# Altium footprint library 分立器件.PcbLib: 102 footprints (part 4 of 7)
Each footprint in its own frame and in the unit in brackets; x right, y up, seen from the top. Pads: shape width x height; smd on the part's side, far side on the other; paste and mask are expansions set on the pad; w line width, h text height; cw(c..) or ccw(c..) is an arc to the next point about the centre after c.
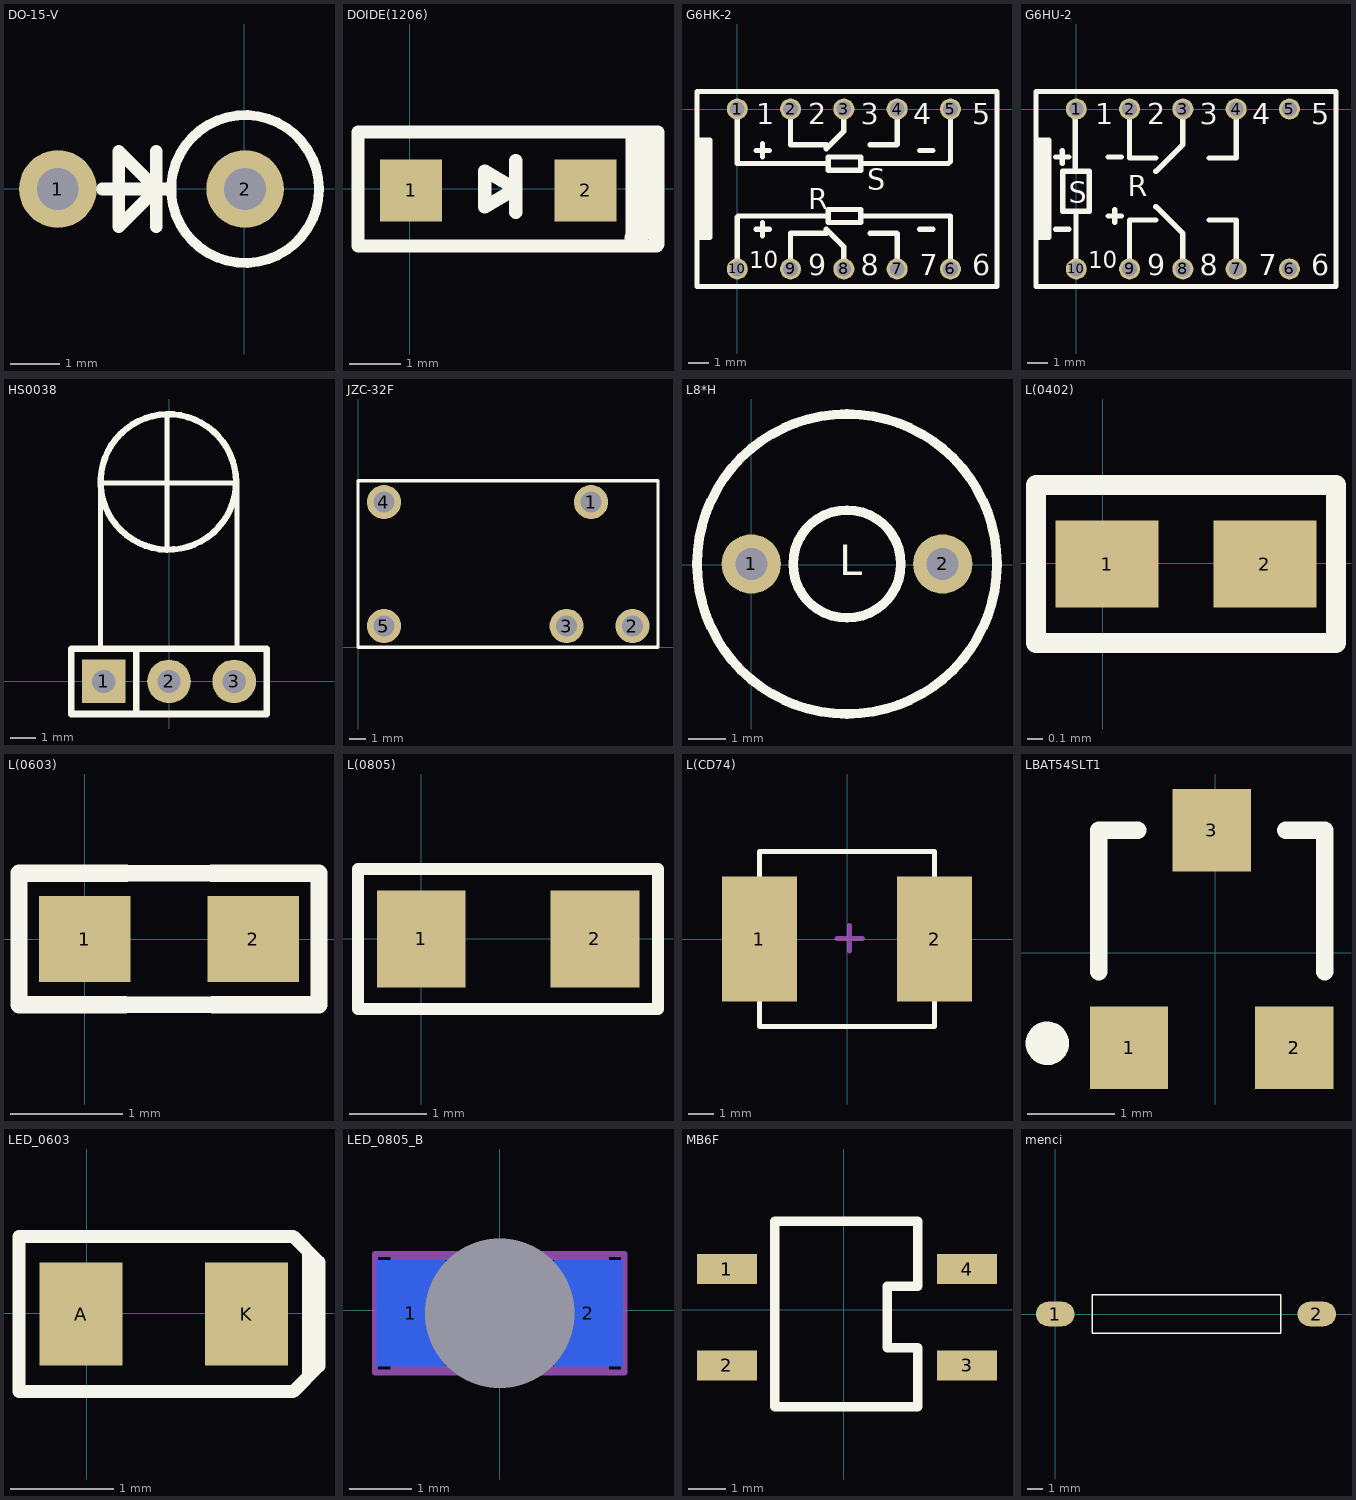
[diagram p3: the footprints below, top view; thin cyan lines are the x and y axes]

## DO-15-V [mil]
pads (2):
  round 62 hole 33.47: 1(-148.96,-0.39) 2(0.65,-0.39)
Top Overlay:
  circle w7.87: c0.65,-0.39 r59.06
  lines w10: -113.53,-0.39 -62.35,-0.39 ; -70.22,-30.39 -70.22,29.61 ; -100.22,-30.39 -100.22,29.61 -70.22,-0.39 -100.22,-30.39

## DOIDE(1206) [mm]
pads (2):
  rect 1.2x1.2 smd: 1(0.025,-0.025) 2(3.4,-0.025)
Top Overlay:
  lines w0.254: -0.8,1.1 4.325,1.1 ; 0.05,1.1 -1,1.1 -1,-1.1 4.3,-1.1 ; 1.95,-0.05 1.45,-0.35 1.45,0.35 2.05,0 ; 2.05,-0.45 2.05,0.55 ; 4.125,-1.1 4.775,-1.1 ; 4.225,1.1 4.8,1.1 4.8,-1.075 ; 4.3,1.1 4.3,-0.925 4.275,-0.925 4.275,-0.95 4.475,-0.95 4.475,1.05 4.65,1.05 4.65,-0.85 4.675,-0.85

## G6HK-2 [mm]
pads (10):
  round 1 hole 0.7: 1(0,0) 2(2.54,0) 3(5.08,0) 4(7.62,0) 5(10.16,0) 6(10.16,-7.62) 7(7.62,-7.62) 8(5.08,-7.62) 9(2.54,-7.62) 10(0,-7.62)
Top Overlay:
  lines w0.254: -1.92,-6.11 -1.32,-6.11 -1.32,-1.48 -1.92,-1.48 ; 0,-7.62 0,-5.142 0.045,-5.097 4.33,-5.097 ; 0,0 0,-2.552 0,-2.597 4.33,-2.597 ; 0.892,-5.722 1.517,-5.722 ; 0.892,-1.972 1.517,-1.972 ; 1.205,-6.035 1.205,-5.41 ; 1.205,-2.285 1.205,-1.66 ; 2.54,-7.62 2.54,-5.935 ; 2.54,-1.685 2.54,0 ; 2.555,-5.92 4.244,-5.92 ; 2.555,-1.7 4.244,-1.7 ; 4.244,-5.734 5.08,-6.57 5.08,-7.62 ; 4.244,-1.886 5.08,-1.05 5.08,0 ; 5.892,-5.097 10.16,-5.097 10.16,-5.205 10.16,-7.62 ; 5.892,-2.597 10.053,-2.597 10.16,-2.49 10.16,0 ; 6.335,-5.92 7.605,-5.92 ; 6.335,-1.7 7.605,-1.7 ; 7.62,-7.62 7.62,-5.935 ; 7.62,-1.685 7.62,0 ; 8.705,-5.722 9.33,-5.722 ; 8.705,-1.972 9.33,-1.972 ; -1.92,-8.46 -1.92,0.84 12.38,0.84 12.38,-8.46 -1.92,-8.46 ; 4.33,-5.41 4.33,-4.785 5.892,-4.785 5.892,-5.41 4.33,-5.41 ; 4.33,-2.91 5.892,-2.91 5.892,-2.285 4.33,-2.285 4.33,-2.91
  lines w0.5: -1.61,-5.96 -1.61,-1.66
  text "1" at 0.892,-0.722 h1
  text "2" at 3.392,-0.722 h1
  text "3" at 5.892,-0.722 h1
  text "4" at 8.392,-0.722 h1
  text "5" at 11.205,-0.722 h1
  text "6" at 11.205,-7.91 h1
  text "7" at 8.705,-7.91 h1
  text "8" at 5.892,-7.91 h1
  text "9" at 3.392,-7.91 h1
  text "10" at 0.58,-7.597 h0.8
  text "S" at 6.205,-3.847 h1
  text "R" at 3.392,-4.785 h1

## G6HU-2 [mm]
pads (10):
  round 1 hole 0.7: 1(0,0) 2(2.54,0) 3(5.08,0) 4(7.62,0) 5(10.16,0) 6(10.16,-7.62) 7(7.62,-7.62) 8(5.08,-7.62) 9(2.54,-7.62) 10(0,-7.62)
Top Overlay:
  lines w0.254: -1.92,-6.11 -1.32,-6.11 -1.32,-1.48 -1.92,-1.48 ; -0.983,-5.722 -0.358,-5.722 ; -0.983,-2.285 -0.358,-2.285 ; -0.67,-2.597 -0.67,-1.972 ; -0.045,-2.97 -0.045,-0.045 ; -0.015,-7.62 -0.015,-4.875 ; 1.517,-5.097 2.142,-5.097 ; 1.517,-2.285 2.142,-2.285 ; 1.83,-5.41 1.83,-4.785 ; 2.54,-7.62 2.54,-5.3 ; 2.54,0 2.54,-2.32 2.555,-2.335 3.795,-2.335 ; 2.555,-5.285 3.795,-5.285 ; 3.795,-4.65 5.08,-5.935 5.08,-7.62 ; 3.795,-2.97 5.08,-1.685 5.08,0 ; 6.335,-5.285 7.605,-5.285 ; 6.335,-2.335 7.605,-2.335 7.62,-2.32 7.62,0 ; 7.62,-7.62 7.62,-5.3 ; -1.92,-8.46 12.38,-8.46 12.38,0.84 -1.92,0.84 -1.92,-8.46 ; -0.65,-4.875 -0.65,-2.97 0.62,-2.97 0.62,-4.875 -0.65,-4.875
  lines w0.5: -1.61,-5.96 -1.61,-1.66
  text "S" at -0.358,-4.472 h1
  text "R" at 2.455,-4.16 h1
  text "10" at 0.58,-7.597 h0.8
  text "9" at 3.392,-7.91 h1
  text "8" at 5.892,-7.91 h1
  text "7" at 8.705,-7.91 h1
  text "6" at 11.205,-7.91 h1
  text "5" at 11.205,-0.722 h1
  text "4" at 8.392,-0.722 h1
  text "3" at 5.892,-0.722 h1
  text "2" at 3.392,-0.722 h1
  text "1" at 0.892,-0.722 h1

## HS0038 [mm]
pads (3):
  rect 1.7x1.7 hole 0.9: 1(-2.54,0)
  round 1.7 hole 0.9: 2(0,0) 3(2.54,0)
Top Overlay:
  circle w0.25: c-0.025,7.768 r2.637
  lines w0.2: -2.667,1.245 -2.667,7.645 ; -2.591,7.722 2.642,7.722 2.642,1.295 ; -0.076,5.182 -0.076,10.414
  lines w0.254: -1.27,-1.27 -1.27,1.27 ; -3.81,-1.27 3.81,-1.27 3.81,1.27 -3.81,1.27 -3.81,-1.27

## JZC-32F [mm]
pads (5):
  round 2.1 hole 1.3: 1(14.294,8.897) 2(16.834,1.297) 3(12.794,1.297) 4(1.594,8.897) 5(1.594,1.297)
Top Overlay:
  lines w0.2: 0,0 18.4,0 18.4,10.2 0,10.2 0,0

## L8*H [mil]
pads (2):
  round 62 hole 33.47: 1(-0.04,0.67) 2(199.96,0.67)
Top Overlay:
  circle w10: c99.96,0.67 r56.37
  circle w10: c99.96,0.67 r156.74
  text "L" at 92.09,-11.14 h31.5

## L(0402) [mm]
pads (2):
  rect 0.65x0.55 smd: 1(0.029,-0.003) 2(1.029,-0.003)
Top Overlay:
  lines w0.127: -0.421,-0.503 1.479,-0.503 1.479,0.497 0.224,0.497 -0.421,0.497 -0.421,-0.503

## L(0603) [mil]
pads (2):
  rect 32x30 smd: 1(0,0) 2(59,0)
Top Overlay:
  lines w5.91: 14,-23 45,-23 ; 14.4,23 44.6,23
  lines w6: 14,-23 -23,-23 -23,23 14.4,23 ; 44.6,23 82,23 82,-23 45,-23

## L(0805) [mil]
pads (2):
  rect 45x49.21 smd: 1(0,0) 2(88,0)
Top Overlay:
  lines w5.91: -32,-35.43 120,-35.43 120,35.43 -32,35.43 -32,-35.43

## L(CD74) [mm]
pads (2):
  rect 3x5 smd: 1(-3.5,0) 2(3.5,0)
Top Overlay:
  lines w0.2: -3.5,-3.5 -3.5,3.5 3.5,3.5 3.5,-3.5 -3.5,-3.5
Mechanical 15:
  lines w0.2: -0.405,0.029 0.611,0.029 ; 0.103,-0.479 0.103,0.537

## LBAT54SLT1 [mm]
pads (3):
  rect 0.9x0.95 smd: 1(-0.991,-1.092) 2(0.909,-1.092) 3(-0.041,1.408)
Top Overlay:
  circle w0.25: c-1.93,-1.041 r0.125
  lines w0.2: -1.341,-0.217 -1.341,1.408 -0.891,1.408 ; 0.809,1.408 1.259,1.408 1.259,-0.217
3D body: height 1.2, standoff 0, extent -1.465,-1.318 1.435,1.482

## LED_0603 [mm]
pads (2):
  rect 0.8x1 smd: A(-0.055,-0.008) K(1.545,-0.008)
Top Overlay:
  lines w0.127: 2.145,-0.608 2.145,-0.008 ; 2.145,0.592 2.145,-0.008 ; 2.245,-0.008 2.145,-0.008 ; -0.655,-0.758 -0.655,0.742 1.995,0.742 2.245,0.492 2.245,-0.508 1.995,-0.758 -0.655,-0.758

## LED_0805_B [mm]
pads (3):
  rect 1.1x1.7 smd far side: 1(-1.422,-0.051) 2(1.422,-0.051)
  round 0 hole 2.4: ""(0,-0.051)
Top Overlay:
  lines w0.2: -0.4,-0.801 0.4,-0.801 ; -0.4,0.699 0.4,0.699
Bottom Overlay:
  lines w0.178: 2.235,-1.397 -2.21,-1.397 -2.21,1.27 2.235,1.27 ; 2.21,-1.397 2.54,-1.397 2.54,1.27 2.21,1.27 2.21,-1.397
Mechanical 13:
  lines w0.1: -1.7,-0.951 -1.7,0.849 1.7,0.849 1.7,-0.951 -1.7,-0.951
Mechanical 15:
  lines w0.1: -0.5,-0.051 0.5,-0.051 ; 0,-0.551 0,0.449 ; -2,-1.001 -2,0.899 2,0.899 2,-1.001 -2,-1.001
3D body: height 1.3, standoff 0, extent -1.7,-0.951 1.7,0.849

## MB6F [mm]
pads (4):
  rect 1.6x0.8 smd: 1(-3.124,1.092) 2(-3.124,-1.483) 3(3.301,-1.483) 4(3.301,1.092)
Top Overlay:
  lines w0.254: -1.849,0.492 -1.849,2.367 1.976,2.367 1.976,0.635 1.168,0.635 1.168,-1.016 1.981,-1.016 1.981,-2.583 -1.849,-2.583 -1.849,0.617

## menci [mm]
pads (2):
  oval 2.5x1.6 smd: 1(0,0) 2(17,0)
Top Overlay:
  lines w0.1: 2.413,-1.25 2.413,1.25 14.656,1.25 14.656,-1.25 2.413,-1.25